# Altium schematic symbol library switch_ic_analog_mux&demux.SchLib: 50 symbols
Pins are listed as number, name and electrical type; pins without a type are passive.

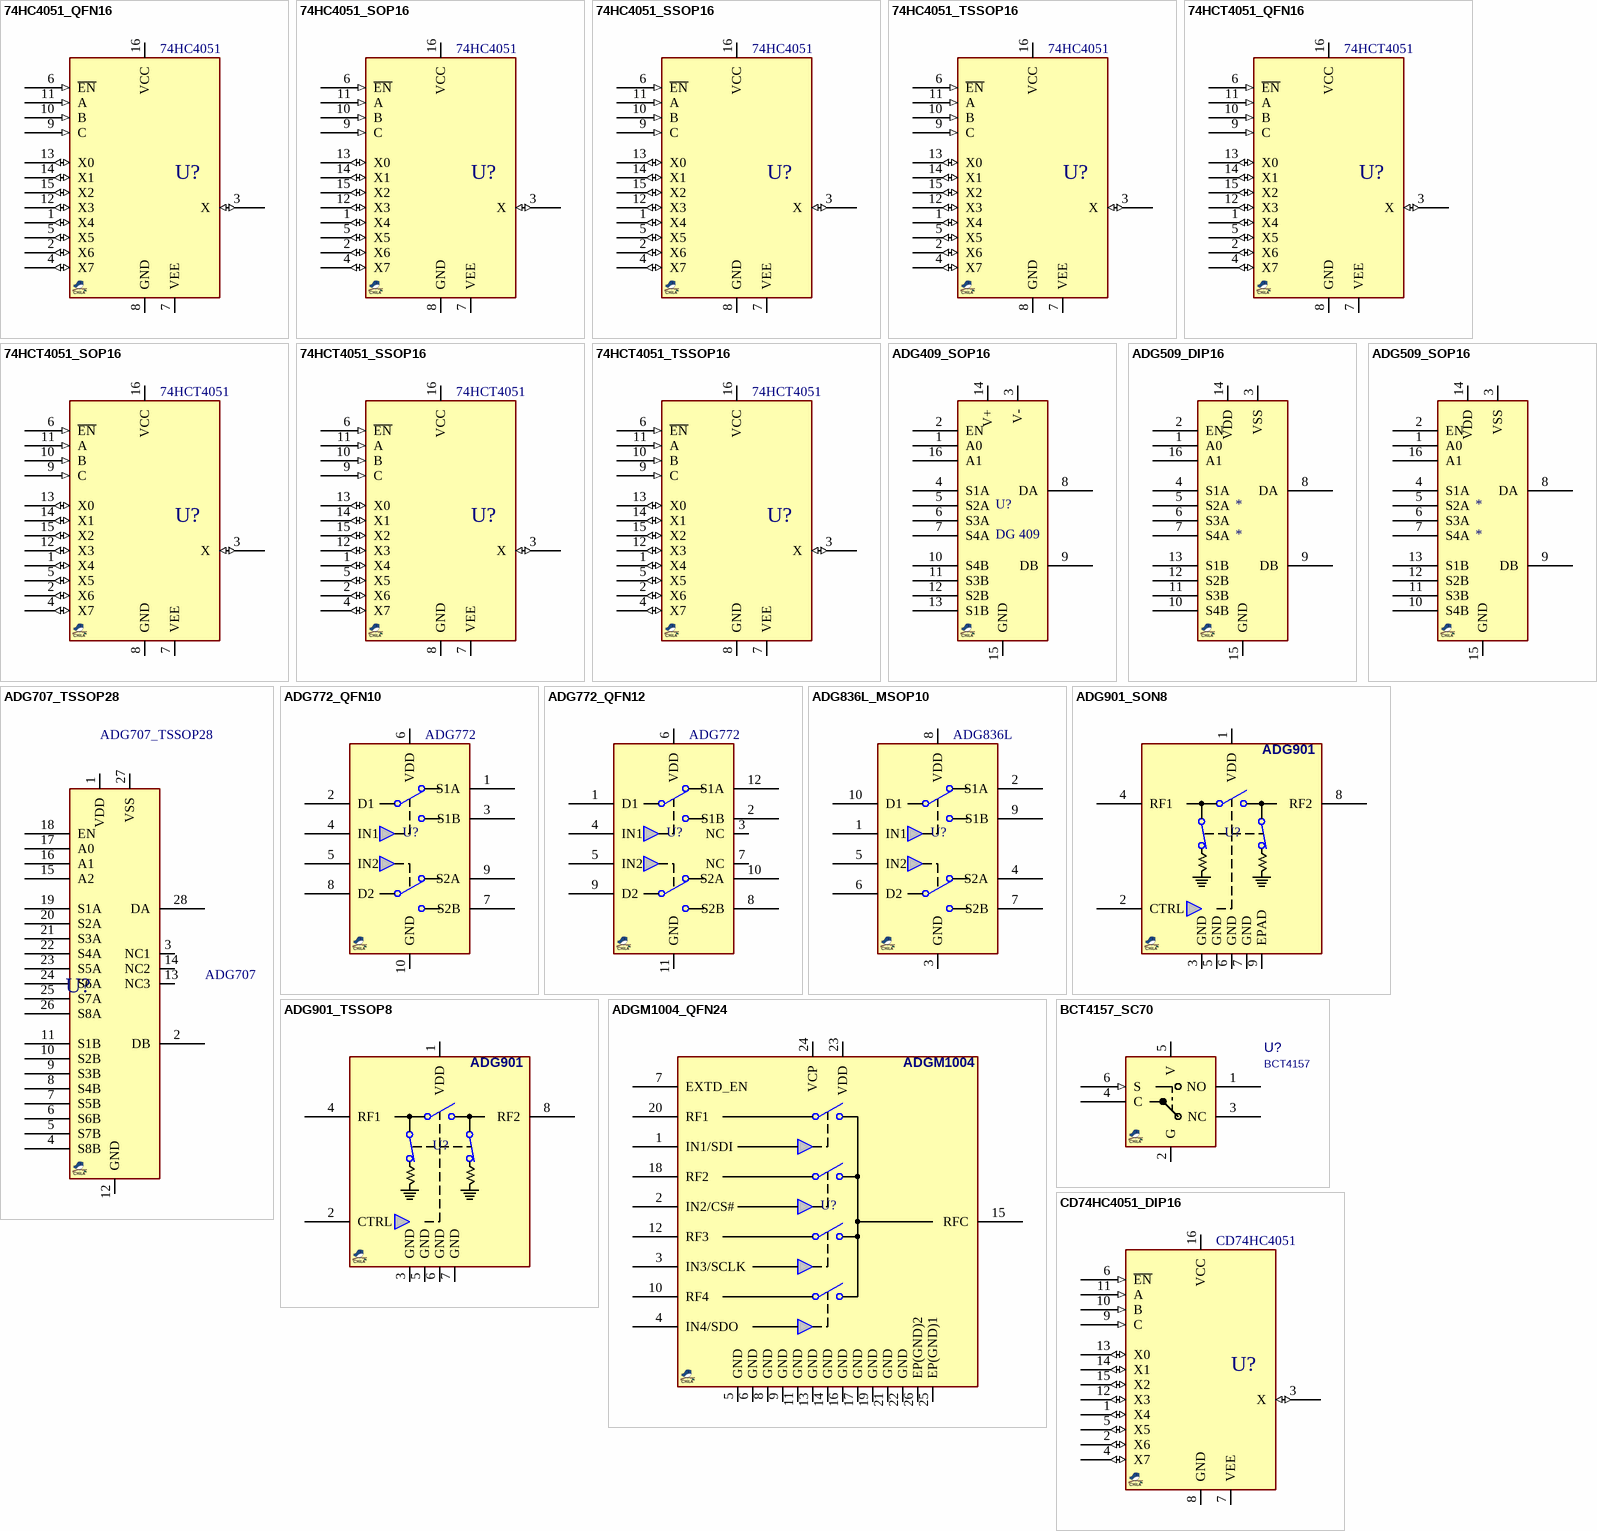
[diagram p0: symbols 74HC4051_QFN16 to CD74HC4051_DIP16]

## 74HC4051_QFN16
designator U?, comment 74HC4051
IC, MUX/DEMUX, 8:1 , analog; MANF: NXP; MANF_P#: 74HC4051D; PARAM2: 2~4.5VCC, -5~+5V; PARAM: 80/70/60 Ohm, -40~125°C; PRICE: -; VALUE: 74HC4051; PACKAGE: QFN-16
footprint QFN50_16T_3525 (Footprint not found)
pins: 1 X4 (io), 2 X6 (io), 3 X (io), 4 X7 (io), 5 X5 (io), 6 ~{EN} (in), 7 VEE (power), 8 GND (power), 9 C (in), 10 B (in), 11 A (in), 12 X3 (io), 13 X0 (io), 14 X1 (io), 15 X2 (io), 16 VCC (power)

## 74HC4051_SOP16
designator U?, comment 74HC4051
IC, MUX/DEMUX, 8:1 , analog; MANF: NXP; MANF_P#: 74HC4051D; PARAM2: 2~4.5VCC, -5~+5V; PARAM: 80/70/60 Ohm, -40~125°C; PRICE: -; VALUE: 74HC4051; PACKAGE: SOP-16
footprint SO_16 (SOP, SOIC, 3.9mm width, 1.27mm pitch,)
pins: 1 X4 (io), 2 X6 (io), 3 X (io), 4 X7 (io), 5 X5 (io), 6 ~{EN} (in), 7 VEE (power), 8 GND (power), 9 C (in), 10 B (in), 11 A (in), 12 X3 (io), 13 X0 (io), 14 X1 (io), 15 X2 (io), 16 VCC (power)

## 74HC4051_SSOP16
designator U?, comment 74HC4051
IC, MUX/DEMUX, 8:1 , analog; MANF: NXP; MANF_P#: 74HC4051DB; PARAM2: 2~4.5VCC, -5~+5V; PARAM: 80/70/60 Ohm, -40~125°C; PRICE: -; PACKAGE: SSOP-16; VALUE: 74HC4051
footprint SOG65_16_W (SSOP16, SOT338-1, SOT403-1, RU-16, pitch: 0.65mm, 6x5.3mm, GN16, MO-150AC)
pins: 1 X4 (io), 2 X6 (io), 3 X (io), 4 X7 (io), 5 X5 (io), 6 ~{EN} (in), 7 VEE (power), 8 GND (power), 9 C (in), 10 B (in), 11 A (in), 12 X3 (io), 13 X0 (io), 14 X1 (io), 15 X2 (io), 16 VCC (power)

## 74HC4051_TSSOP16
designator U?, comment 74HC4051
IC, MUX/DEMUX, 8:1 , analog; MANF: NXP; MANF_P#: 74HC4051PW; PARAM2: 2~4.5VCC, -5~+5V; PARAM: 80/70/60 Ohm, -40~125°C; PRICE: -; VALUE: 74HC4051; PACKAGE: TSSOP-16
footprint SOG65_16 (PW TSSOP (TI), MO-153-AB (JEDEC), 16Lead, pitch: 0.65mm, 5x4.4x1.2mm)
pins: 1 X4 (io), 2 X6 (io), 3 X (io), 4 X7 (io), 5 X5 (io), 6 ~{EN} (in), 7 VEE (power), 8 GND (power), 9 C (in), 10 B (in), 11 A (in), 12 X3 (io), 13 X0 (io), 14 X1 (io), 15 X2 (io), 16 VCC (power)

## 74HCT4051_QFN16
designator U?, comment 74HCT4051
IC, MUX/DEMUX, 8:1 , analog; MANF: NXP; MANF_P#: 74HCT4051D; PARAM2: 4.5~5.5VCC, -5~+5V; PARAM: 80/70/60 Ohm, -40~125°C; PRICE: -; VALUE: 74HCT4051; PACKAGE: QFN-16
footprint QFN50_16T_3525 (Footprint not found)
pins: 1 X4 (io), 2 X6 (io), 3 X (io), 4 X7 (io), 5 X5 (io), 6 ~{EN} (in), 7 VEE (power), 8 GND (power), 9 C (in), 10 B (in), 11 A (in), 12 X3 (io), 13 X0 (io), 14 X1 (io), 15 X2 (io), 16 VCC (power)

## 74HCT4051_SOP16
designator U?, comment 74HCT4051
IC, MUX/DEMUX, 8:1 , analog; MANF: NXP; MANF_P#: 74HCT4051D; PARAM2: 4.5~5.5VCC, -5~+5V; PARAM: 80/70/60 Ohm, -40~125°C; PRICE: -; VALUE: 74HCT4051; PACKAGE: SOP-16
footprint SO_16 (SOP, SOIC, 3.9mm width, 1.27mm pitch,)
pins: 1 X4 (io), 2 X6 (io), 3 X (io), 4 X7 (io), 5 X5 (io), 6 ~{EN} (in), 7 VEE (power), 8 GND (power), 9 C (in), 10 B (in), 11 A (in), 12 X3 (io), 13 X0 (io), 14 X1 (io), 15 X2 (io), 16 VCC (power)

## 74HCT4051_SSOP16
designator U?, comment 74HCT4051
IC, MUX/DEMUX, 8:1 , analog; MANF: NXP; MANF_P#: 74HCT4051DB; PARAM2: 4.5~5.5VCC, -5~+5V; PARAM: 80/70/60 Ohm, -40~125°C; PRICE: -; PACKAGE: SSOP-16; VALUE: 74HCT4051
footprint SOG65_16_W (SSOP16, SOT338-1, SOT403-1, RU-16, pitch: 0.65mm, 6x5.3mm, GN16, MO-150AC)
pins: 1 X4 (io), 2 X6 (io), 3 X (io), 4 X7 (io), 5 X5 (io), 6 ~{EN} (in), 7 VEE (power), 8 GND (power), 9 C (in), 10 B (in), 11 A (in), 12 X3 (io), 13 X0 (io), 14 X1 (io), 15 X2 (io), 16 VCC (power)

## 74HCT4051_TSSOP16
designator U?, comment 74HCT4051
IC, MUX/DEMUX, 8:1 , analog; MANF: NXP; MANF_P#: 74HCT4051PW; PARAM2: 4.5~5.5VCC, -5~+5V; PARAM: 80/70/60 Ohm, -40~125°C; PRICE: -; VALUE: 74HCT4051; PACKAGE: TSSOP-16
footprint SOG65_16 (PW TSSOP (TI), MO-153-AB (JEDEC), 16Lead, pitch: 0.65mm, 5x4.4x1.2mm)
pins: 1 X4 (io), 2 X6 (io), 3 X (io), 4 X7 (io), 5 X5 (io), 6 ~{EN} (in), 7 VEE (power), 8 GND (power), 9 C (in), 10 B (in), 11 A (in), 12 X3 (io), 13 X0 (io), 14 X1 (io), 15 X2 (io), 16 VCC (power)

## ADG409_SOP16
designator U?, comment DG 409
IC, SW/MUX, ANALOG, DUAL; MANF: Analog Devices; MANF_P#: ADG409BRZ; PARAM2: 15/12/5VCC; PARAM: 125Ohm, -40~85oC; VALUE: ADG409; PRICE: 6$; PACKAGE: SOP-16
footprint SO_16 (SOP, SOIC, 3.9mm width, 1.27mm pitch,)
pins: 1 A0, 2 EN, 3 V-, 4 S1A, 5 S2A, 6 S3A, 7 S4A, 8 DA, 9 DB, 10 S4B, 11 S3B, 12 S2B, 13 S1B, 14 V+, 15 GND, 16 A1

## ADG509_DIP16
designator *
IC, SW/MUX, ANALOG, DUAL; MANF: Analog Devices; MANF_P#: ADG509AKN; PARAM2: 10.8~16.5VCC; PARAM: -40~85oC; VALUE: ADG509; PRICE: 6$; PACKAGE: DIP-16
footprint DIP_16 (DIP, pitch 2.54mm, 300mil Width)
pins: 1 A0, 2 EN, 3 VSS, 4 S1A, 5 S2A, 6 S3A, 7 S4A, 8 DA, 9 DB, 10 S4B, 11 S3B, 12 S2B, 13 S1B, 14 VDD, 15 GND, 16 A1

## ADG509_SOP16
designator *
IC, SW/MUX, ANALOG, DUAL; MANF: Analog Devices; MANF_P#: ADG509AKR; PARAM2: 10.8~16.5VCC; PARAM: -40~85oC; VALUE: ADG509; PRICE: 6$; PACKAGE: SOP-16
footprint SO_16 (SOP, SOIC, 3.9mm width, 1.27mm pitch,)
pins: 1 A0, 2 EN, 3 VSS, 4 S1A, 5 S2A, 6 S3A, 7 S4A, 8 DA, 9 DB, 10 S4B, 11 S3B, 12 S2B, 13 S1B, 14 VDD, 15 GND, 16 A1

## ADG707_TSSOP28
designator U?  value ADG707
IC, SWITCH, MUX, 8/16CH; MANF: ANALOG DEVICES; DIST#: DIGIKEY, ADG707BRUZ-ND; MANF_P#: ADG707BRUZ; PARAM2: 1.8~5.5VCC; PARAM: 8Bit, ±2.5V, 2.5Ohm, -40~85oC; PRICE: 4.8409; PACKAGE: TSSOP-28
footprint SOG65_28 (PW TSSOP (TI), MO-153-AE (JEDEC), 28Lead, pitch: 0.65mm, 10x4.4x1.2mm)
pins: 1 VDD, 2 DB, 3 NC1, 4 S8B, 5 S7B, 6 S6B, 7 S5B, 8 S4B, 9 S3B, 10 S2B, 11 S1B, 12 GND, 13 NC3, 14 NC2, 15 A2, 16 A1, 17 A0, 18 EN, 19 S1A, 20 S2A, 21 S3A, 22 S4A, 23 S5A, 24 S6A, 25 S7A, 26 S8A, 27 VSS, 28 DA

## ADG772_QFN10
designator U?, comment ADG772
IC SWITCH ANALOG, DUAL SPDT, USB2 MUX/DEMUX; MANF: Analog Devices; MANF_P#: ADG772BCPZ-REEL7; PARAM2: 2.7~3.6VCC; PARAM: 6.7Ohm, 9ns/6ns, -40~85oC; PRICE: 2.4$; VALUE: ADG772; PACKAGE: QFN-10
footprint QFN40_10_1316 (QFN, 10, 1.3X1.6mm, 0.4mm, LFCSP, CP-10-10)
pins: 1 S1A, 2 D1, 3 S1B, 4 IN1, 5 IN2, 6 VDD, 7 S2B, 8 D2, 9 S2A, 10 GND

## ADG772_QFN12
designator U?, comment ADG772
IC SWITCH ANALOG, DUAL SPDT, USB2 MUX/DEMUX; MANF: Analog Devices; MANF_P#: ADG772BCPZ-1REEL; PARAM2: 2.7~3.6VCC; PARAM: 6.7Ohm, 9ns/6ns, -40~85oC; PRICE: 2.4$; VALUE: ADG772; PACKAGE: QFN-12
footprint QFN50_12T (LFCSP, CP-12-4, 3X3mm, 0.5mm pitch, MO-220)
pins: 1 D1, 2 S1B, 3 NC, 4 IN1, 5 IN2, 6 VDD, 7 NC, 8 S2B, 9 D2, 10 S2A, 11 GND, 12 S1A

## ADG836L_MSOP10
designator U?, comment ADG836L
IC SWITCH ANALOG, DUAL SPDT; MANF: Analog Devices; MANF_P#: ADG836LYRMZ; PARAM2: 1.65~3.6VCC; PARAM: 650mOhm, -40~125oC; PRICE: 3.3$; VALUE: ADG836L; PACKAGE: MSOP-10
footprint SOG50_10 (MSSOP10, 3X3mm 0.5mm pitch, DGS, MSOP10, 10uSOP/usop10 (Dallas), MO-187BA(JEDEC))
pins: 1 IN1, 2 S1A, 3 GND, 4 S2A, 5 IN2, 6 D2, 7 S2B, 8 VDD, 9 S1B, 10 D1

## ADG901_SON8
designator U?, comment ADG901  (value not drawn)
IC SWITCH ANALOG, SPST, 0~4.5GHz; MANF: Analog Devices; MANF_P#: ADG901BCPZ; PARAM2: 1.65~2.75VCC; PARAM: 0.5dB Loss, -40~85oC; PRICE: 3.5$; VALUE: ADG901; PACKAGE: SON-8
footprint SON50_8T_3030 (WSON-8, DRG, LFCSP_WD, 3X3mm 0.5mm pitch with Thermal pad)
pins: 1 VDD, 2 CTRL, 3 GND, 4 RF1, 5 GND, 6 GND, 7 GND, 8 RF2, 9 EPAD

## ADG901_TSSOP8
designator U?, comment ADG901  (value not drawn)
IC SWITCH ANALOG, SPST, 0~4.5GHz; MANF: Analog Devices; MANF_P#: ADG901BRMZ; PARAM2: 1.65~2.75VCC; PARAM: 0.5dB Loss, -40~85oC; PRICE: 3.5$; VALUE: ADG901; PACKAGE: TSSOP-8
footprint SOG65_8_3 (TSSOP8, MICRO8, DGK VSSOP-8, pitch: 0.65mm, 3X3mm, MSOP8, RM-8, MS8, MSOP-8, TSSO3X5-G8/D3.1, 8 uMAX, usop8/8uSOP, MO-187AA, MO-153AA, SSOP DCT (TI))
pins: 1 VDD, 2 CTRL, 3 GND, 4 RF1, 5 GND, 6 GND, 7 GND, 8 RF2

## ADGM1004_QFN24
designator U?, comment ADGM1004  (value not drawn)
IC SWITCH ANALOG, SP4T, 0~13GHz; MANF: Analog Devices; MANF_P#: ADGM1004JCPZ; PARAM2: 3.3VCC; PARAM: 2.9Ohm, 0~85°C; PRICE: 66$; VALUE: ADGM1004; PACKAGE: QFN-24
footprint QFN50_24T2_5040 (CP-24-4, QFN-24, 0.5mm pitch, 5x4x1.5mm)
pins: 1 IN1/SDI, 2 IN2/CS#, 3 IN3/SCLK, 4 IN4/SDO, 5 GND, 6 GND, 7 EXTD_EN, 8 GND, 9 GND, 10 RF4, 11 GND, 12 RF3, 13 GND, 14 GND, 15 RFC, 16 GND, 17 GND, 18 RF2, 19 GND, 20 RF1, 21 GND, 22 GND, 23 VDD, 24 VCP, 25 EP(GND)1, 26 EP(GND)2

## BCT4157_SC70
designator U?, comment BCT4157
IC, SWITCH, Analog, SPDT, SC-70-6; MANF: BROADCHIP; MANF_P#: BCT4157EXT; PARAM2: 1.65~5.5V, 300MHz BW; PARAM: 2.8Ohm Ron, 14ns, -40~85oC; PRICE: 0.05$; VALUE: BCT4157; PACKAGE: SC70-5
footprint SOT363_6 (SOT-363, SC-70_6, BFS483, SC-88, MO-203AB, DSO65_6_200X130)
pins: 1 NO, 2 G, 3 NC, 4 C, 5 V, 6 S (in)

## CD74HC4051_DIP16
designator U?, comment CD74HC4051
IC, MUX/DEMUX, 8:1 , analog; MANF: Texas Instruments; MANF_P#: CD74HC4051E; PARAM2: 2~6VCC,  +/- 5 V; PARAM: 130 Ohm, 225ns ON time, -55~125°C; PRICE: 0.6$; VALUE: CD74HC4051; PACKAGE: DIP-16
footprint DIP_16 (DIP, pitch 2.54mm, 300mil Width)
pins: 1 X4 (io), 2 X6 (io), 3 X (io), 4 X7 (io), 5 X5 (io), 6 ~{EN} (in), 7 VEE (power), 8 GND (power), 9 C (in), 10 B (in), 11 A (in), 12 X3 (io), 13 X0 (io), 14 X1 (io), 15 X2 (io), 16 VCC (power)

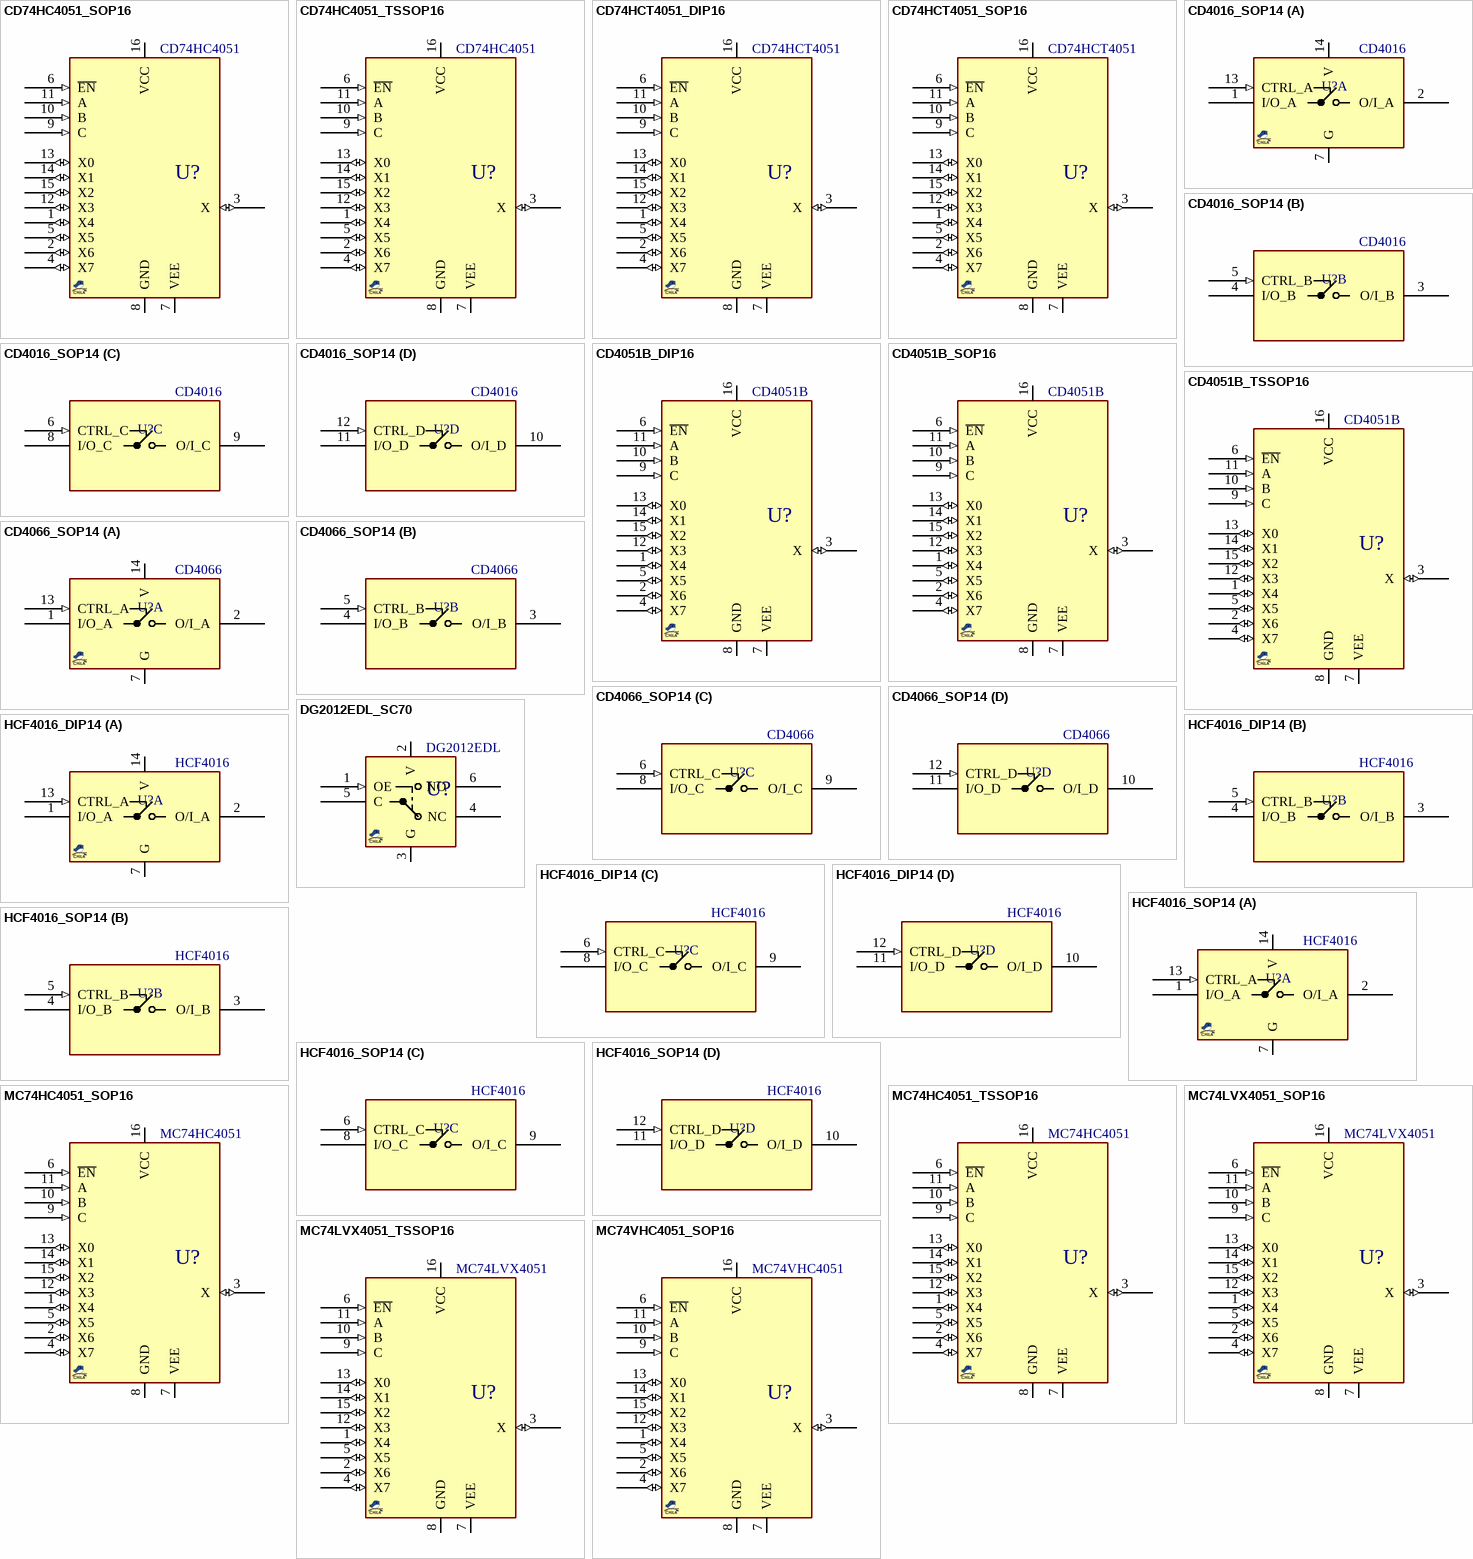
[diagram p1: symbols CD74HC4051_SOP16 to MC74VHC4051_SOP16]

## CD74HC4051_SOP16
designator U?, comment CD74HC4051
IC, MUX/DEMUX, 8:1 , analog; MANF: Texas Instruments; MANF_P#: CD74HC4051M, CD74HC4051NS; PARAM2: 2~6VCC,  +/- 5 V; PARAM: 130 Ohm, 225ns ON time, -55~125°C; PRICE: 0.6$; VALUE: CD74HC4051; PACKAGE: SOP-16
footprint SO_16 (SOP, SOIC, 3.9mm width, 1.27mm pitch,)
pins: 1 X4 (io), 2 X6 (io), 3 X (io), 4 X7 (io), 5 X5 (io), 6 ~{EN} (in), 7 VEE (power), 8 GND (power), 9 C (in), 10 B (in), 11 A (in), 12 X3 (io), 13 X0 (io), 14 X1 (io), 15 X2 (io), 16 VCC (power)

## CD74HC4051_TSSOP16
designator U?, comment CD74HC4051
IC, MUX/DEMUX, 8:1 , analog; MANF: Texas Instruments; MANF_P#: CD74HC4051PW; PARAM2: 2~6VCC,  +/- 5 V; PARAM: 130 Ohm, 225ns ON time, -55~125°C; PRICE: 0.6$; VALUE: CD74HC4051; PACKAGE: TSSOP-16
footprint SOG65_16 (PW TSSOP (TI), MO-153-AB (JEDEC), 16Lead, pitch: 0.65mm, 5x4.4x1.2mm)
pins: 1 X4 (io), 2 X6 (io), 3 X (io), 4 X7 (io), 5 X5 (io), 6 ~{EN} (in), 7 VEE (power), 8 GND (power), 9 C (in), 10 B (in), 11 A (in), 12 X3 (io), 13 X0 (io), 14 X1 (io), 15 X2 (io), 16 VCC (power)

## CD74HCT4051_DIP16
designator U?, comment CD74HCT4051
IC, MUX/DEMUX, 8:1 , analog; MANF: Texas Instruments; MANF_P#: CD74HCT4051E; PARAM2: 4.5~5.5VCC,  +/- 5 V; PARAM: 130 Ohm, 49ns ON time, -55~125°C; PRICE: 0.6$; VALUE: CD74HCT4051; PACKAGE: DIP-16
footprint DIP_16 (DIP, pitch 2.54mm, 300mil Width)
pins: 1 X4 (io), 2 X6 (io), 3 X (io), 4 X7 (io), 5 X5 (io), 6 ~{EN} (in), 7 VEE (power), 8 GND (power), 9 C (in), 10 B (in), 11 A (in), 12 X3 (io), 13 X0 (io), 14 X1 (io), 15 X2 (io), 16 VCC (power)

## CD74HCT4051_SOP16
designator U?, comment CD74HCT4051
IC, MUX/DEMUX, 8:1 , analog; MANF: Texas Instruments; MANF_P#: CD74HCT4051M; PARAM2: 4.5~5.5VCC,  +/- 5 V; PARAM: 130 Ohm, 49ns ON time, -55~125°C; PRICE: 0.6$; VALUE: CD74HCT4051; PACKAGE: SOP-16
footprint SO_16 (SOP, SOIC, 3.9mm width, 1.27mm pitch,)
pins: 1 X4 (io), 2 X6 (io), 3 X (io), 4 X7 (io), 5 X5 (io), 6 ~{EN} (in), 7 VEE (power), 8 GND (power), 9 C (in), 10 B (in), 11 A (in), 12 X3 (io), 13 X0 (io), 14 X1 (io), 15 X2 (io), 16 VCC (power)

## CD4016_SOP14
designator U?, comment CD4016
IC SWITCH ANALOG, QUAD BILATERAL; MANF: Texas Instruments; MANF_P#: CD4016BM; PARAM2: 3~18V, ±10V SWITCH; PARAM: 5Ohm, -55~125oC; PRICE: 0.4$; VALUE: CD4016; PACKAGE: SOP-14
footprint SO_14 (SOP, SOIC, 3.9mm width, 1.27mm pitch,)
part A pins: 1 I/O_A, 2 O/I_A, 7 G, 13 CTRL_A (in), 14 V
part B pins: 3 O/I_B, 4 I/O_B, 5 CTRL_B (in)
part C pins: 6 CTRL_C (in), 8 I/O_C, 9 O/I_C
part D pins: 10 O/I_D, 11 I/O_D, 12 CTRL_D (in)

## CD4051B_DIP16
designator U?, comment CD4051B
IC, MUX/DEMUX, 8:1 , analog; MANF: Texas Instruments; MANF_P#: CD4051BE; PARAM2: 5~18VCC,  +/- 9 V; PARAM: 240 Ohm, 720ns ON time, -55~125°C; PRICE: 0.6$; VALUE: CD4051B; PACKAGE: DIP-16
footprint DIP_16 (DIP, pitch 2.54mm, 300mil Width)
pins: 1 X4 (io), 2 X6 (io), 3 X (io), 4 X7 (io), 5 X5 (io), 6 ~{EN} (in), 7 VEE (power), 8 GND (power), 9 C (in), 10 B (in), 11 A (in), 12 X3 (io), 13 X0 (io), 14 X1 (io), 15 X2 (io), 16 VCC (power)

## CD4051B_SOP16
designator U?, comment CD4051B
IC, MUX/DEMUX, 8:1 , analog; MANF: Texas Instruments; MANF_P#: CD4051BM; PARAM2: 5~18VCC,  +/- 9 V; PARAM: 240 Ohm, 720ns ON time, -55~125°C; PRICE: 0.6$; VALUE: CD4051B; PACKAGE: SOP-16
footprint SO_16 (SOP, SOIC, 3.9mm width, 1.27mm pitch,)
pins: 1 X4 (io), 2 X6 (io), 3 X (io), 4 X7 (io), 5 X5 (io), 6 ~{EN} (in), 7 VEE (power), 8 GND (power), 9 C (in), 10 B (in), 11 A (in), 12 X3 (io), 13 X0 (io), 14 X1 (io), 15 X2 (io), 16 VCC (power)

## CD4051B_TSSOP16
designator U?, comment CD4051B
IC, MUX/DEMUX, 8:1 , analog; MANF: Texas Instruments; MANF_P#: CD4051BPW; PARAM2: 5~18VCC,  +/- 9 V; PARAM: 240 Ohm, 720ns ON time, -55~125°C; PRICE: 0.6$; VALUE: CD4051B; PACKAGE: TSSOP-16
footprint SOG65_16 (PW TSSOP (TI), MO-153-AB (JEDEC), 16Lead, pitch: 0.65mm, 5x4.4x1.2mm)
pins: 1 X4 (io), 2 X6 (io), 3 X (io), 4 X7 (io), 5 X5 (io), 6 ~{EN} (in), 7 VEE (power), 8 GND (power), 9 C (in), 10 B (in), 11 A (in), 12 X3 (io), 13 X0 (io), 14 X1 (io), 15 X2 (io), 16 VCC (power)

## CD4066_SOP14
designator U?, comment CD4066
IC SWITCH ANALOG, QUAD BILATERAL; MANF: Texas Instruments; MANF_P#: CD4066BM; PARAM2: 3~18V, ±10V SWITCH; PARAM: 5Ohm, 30ns, -55~125oC; PRICE: 0.5$, 500t@PAYA; PACKAGE: SOP-14; VALUE: CD4066
footprint SO_14 (SOP, SOIC, 3.9mm width, 1.27mm pitch,)
part A pins: 1 I/O_A, 2 O/I_A, 7 G, 13 CTRL_A (in), 14 V
part B pins: 3 O/I_B, 4 I/O_B, 5 CTRL_B (in)
part C pins: 6 CTRL_C (in), 8 I/O_C, 9 O/I_C
part D pins: 10 O/I_D, 11 I/O_D, 12 CTRL_D (in)

## DG2012EDL_SC70
designator U?, comment DG2012EDL
IC, SWITCH, Analog, SPDT, SC-70-5; MANF: VISHAY; MANF_P#: DG2012EDL-T1-GE3; PARAM2: 1.8~5.5V; PARAM: 1Ohm Ron, 35ns, -40~85oC; PRICE: 0.8$; VALUE: DG2012EDL; PACKAGE: SC70-5
footprint SOT363_6 (SOT-363, SC-70_6, BFS483, SC-88, MO-203AB, DSO65_6_200X130)
pins: 1 OE (in), 2 V, 3 G, 4 NC, 5 C, 6 NO

## HCF4016_DIP14
designator U?, comment HCF4016
IC SWITCH ANALOG, QUAD BILATERAL; MANF: ST; MANF_P#: HCF4016BEY; PARAM2: 3~20V, ±10V SWITCH; PARAM: 5Ohm, -55~125oC; PRICE: 0.4$; VALUE: HCF4016; PACKAGE: DIP-14
footprint DIP_14 (DIP, pitch 2.54mm, 300mil Width)
part A pins: 1 I/O_A, 2 O/I_A, 7 G, 13 CTRL_A (in), 14 V
part B pins: 3 O/I_B, 4 I/O_B, 5 CTRL_B (in)
part C pins: 6 CTRL_C (in), 8 I/O_C, 9 O/I_C
part D pins: 10 O/I_D, 11 I/O_D, 12 CTRL_D (in)

## HCF4016_SOP14
designator U?, comment HCF4016
IC SWITCH ANALOG, QUAD BILATERAL; MANF: ST; MANF_P#: HCF4016BM; PARAM2: 3~20V, ±10V SWITCH; PARAM: 5Ohm, -55~125oC; PRICE: 0.4$, 300t@PAYA; VALUE: HCF4016; PACKAGE: SOP-14
footprint SO_14 (SOP, SOIC, 3.9mm width, 1.27mm pitch,)
part A pins: 1 I/O_A, 2 O/I_A, 7 G, 13 CTRL_A (in), 14 V
part B pins: 3 O/I_B, 4 I/O_B, 5 CTRL_B (in)
part C pins: 6 CTRL_C (in), 8 I/O_C, 9 O/I_C
part D pins: 10 O/I_D, 11 I/O_D, 12 CTRL_D (in)

## MC74HC4051_SOP16
designator U?, comment MC74HC4051
IC, MUX/DEMUX, 8:1 , analog; MANF: ON; MANF_P#: MC74HC4051ADT; PARAM2: 2~12VCC,   +/- 6 V; PARAM: 190Ohm, 245ns ON time, -55~125°C; PRICE: 0.6$; VALUE: MC74HC4051; PACKAGE: SOP-16
footprint SO_16 (SOP, SOIC, 3.9mm width, 1.27mm pitch,)
pins: 1 X4 (io), 2 X6 (io), 3 X (io), 4 X7 (io), 5 X5 (io), 6 ~{EN} (in), 7 VEE (power), 8 GND (power), 9 C (in), 10 B (in), 11 A (in), 12 X3 (io), 13 X0 (io), 14 X1 (io), 15 X2 (io), 16 VCC (power)

## MC74HC4051_TSSOP16
designator U?, comment MC74HC4051
IC, MUX/DEMUX, 8:1 , analog; MANF: ON; MANF_P#: MC74HC4051ADT; PARAM2: 2~12VCC,   +/- 6 V; PARAM: 190Ohm, 245ns ON time, -55~125°C; PRICE: 0.6$; VALUE: MC74HC4051; PACKAGE: TSSOP-16
footprint SOG65_16 (PW TSSOP (TI), MO-153-AB (JEDEC), 16Lead, pitch: 0.65mm, 5x4.4x1.2mm)
pins: 1 X4 (io), 2 X6 (io), 3 X (io), 4 X7 (io), 5 X5 (io), 6 ~{EN} (in), 7 VEE (power), 8 GND (power), 9 C (in), 10 B (in), 11 A (in), 12 X3 (io), 13 X0 (io), 14 X1 (io), 15 X2 (io), 16 VCC (power)

## MC74LVX4051_SOP16
designator U?, comment MC74LVX4051
IC, MUX/DEMUX, 8:1 , analog; MANF: ON; MANF_P#: MC74LVX4051D; PARAM2: 2.5~6VCC,  +/- 5 V; PARAM: 86Ohm, 40ns ON time, -55~125°C; PRICE: 0.6$; VALUE: MC74LVX4051; PACKAGE: SOP-16
footprint SO_16 (SOP, SOIC, 3.9mm width, 1.27mm pitch,)
pins: 1 X4 (io), 2 X6 (io), 3 X (io), 4 X7 (io), 5 X5 (io), 6 ~{EN} (in), 7 VEE (power), 8 GND (power), 9 C (in), 10 B (in), 11 A (in), 12 X3 (io), 13 X0 (io), 14 X1 (io), 15 X2 (io), 16 VCC (power)

## MC74LVX4051_TSSOP16
designator U?, comment MC74LVX4051
IC, MUX/DEMUX, 8:1 , analog; MANF: ON; MANF_P#: MC74LVX4051DT; PARAM2: 2.5~6VCC,  +/- 5 V; PARAM: 86Ohm, 40ns ON time, -55~125°C; PRICE: 0.6$; VALUE: MC74LVX4051; PACKAGE: TSSOP-16
footprint SOG65_16 (PW TSSOP (TI), MO-153-AB (JEDEC), 16Lead, pitch: 0.65mm, 5x4.4x1.2mm)
pins: 1 X4 (io), 2 X6 (io), 3 X (io), 4 X7 (io), 5 X5 (io), 6 ~{EN} (in), 7 VEE (power), 8 GND (power), 9 C (in), 10 B (in), 11 A (in), 12 X3 (io), 13 X0 (io), 14 X1 (io), 15 X2 (io), 16 VCC (power)

## MC74VHC4051_SOP16
designator U?, comment MC74VHC4051
IC, MUX/DEMUX, 8:1 , analog; MANF: ON; MANF_P#: MC74VHC4051D; PARAM2: 2~6VCC,  +/- 5 V; PARAM: 200Ohm, 245ns ON time, -55~125°C; PRICE: 0.6$; PACKAGE: SOP-16; VALUE: MC74VHC4051
footprint SO_16 (SOP, SOIC, 3.9mm width, 1.27mm pitch,)
pins: 1 X4 (io), 2 X6 (io), 3 X (io), 4 X7 (io), 5 X5 (io), 6 ~{EN} (in), 7 VEE (power), 8 GND (power), 9 C (in), 10 B (in), 11 A (in), 12 X3 (io), 13 X0 (io), 14 X1 (io), 15 X2 (io), 16 VCC (power)

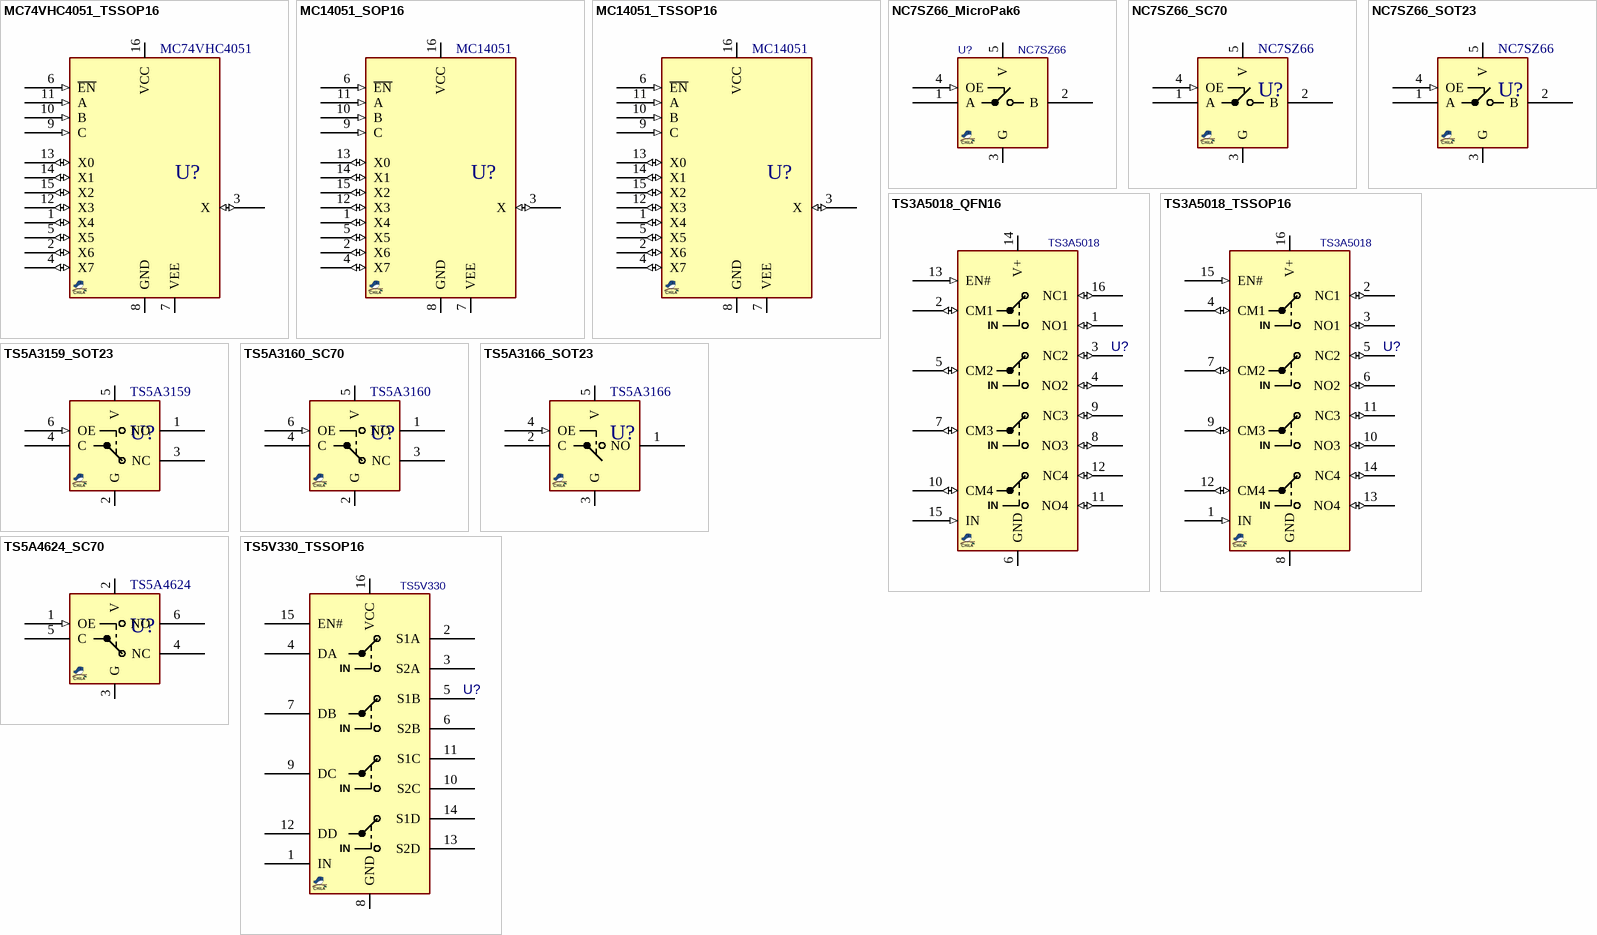
[diagram p2: symbols MC74VHC4051_TSSOP16 to TS5V330_TSSOP16]

## MC74VHC4051_TSSOP16
designator U?, comment MC74VHC4051
IC, MUX/DEMUX, 8:1 , analog; MANF: ON; MANF_P#: MC74VHC4051DT; PARAM2: 2~6VCC,  +/- 5 V; PARAM: 200Ohm, 245ns ON time, -55~125°C; PRICE: 0.6$; PACKAGE: TSSOP-16; VALUE: MC74VHC4051
footprint SOG65_16 (PW TSSOP (TI), MO-153-AB (JEDEC), 16Lead, pitch: 0.65mm, 5x4.4x1.2mm)
pins: 1 X4 (io), 2 X6 (io), 3 X (io), 4 X7 (io), 5 X5 (io), 6 ~{EN} (in), 7 VEE (power), 8 GND (power), 9 C (in), 10 B (in), 11 A (in), 12 X3 (io), 13 X0 (io), 14 X1 (io), 15 X2 (io), 16 VCC (power)

## MC14051_SOP16
designator U?, comment MC14051
IC, MUX/DEMUX, 8:1 , analog; MANF: ON; MANF_P#: MC14051BD; PARAM2: 3~18VCC,; PARAM: 1.2KOhm, 700ns ON time, -55~125°C; PRICE: 0.6$; VALUE: MC14051; PACKAGE: SOP-16
footprint SO_16 (SOP, SOIC, 3.9mm width, 1.27mm pitch,)
pins: 1 X4 (io), 2 X6 (io), 3 X (io), 4 X7 (io), 5 X5 (io), 6 ~{EN} (in), 7 VEE (power), 8 GND (power), 9 C (in), 10 B (in), 11 A (in), 12 X3 (io), 13 X0 (io), 14 X1 (io), 15 X2 (io), 16 VCC (power)

## MC14051_TSSOP16
designator U?, comment MC14051
IC, MUX/DEMUX, 8:1 , analog; MANF: ON; MANF_P#: MC14051BDT; PARAM2: 3~18VCC,; PARAM: 1.2KOhm, 700ns ON time, -55~125°C; PRICE: 0.6$; VALUE: MC14051; PACKAGE: TSSOP-16
footprint SOG65_16 (PW TSSOP (TI), MO-153-AB (JEDEC), 16Lead, pitch: 0.65mm, 5x4.4x1.2mm)
pins: 1 X4 (io), 2 X6 (io), 3 X (io), 4 X7 (io), 5 X5 (io), 6 ~{EN} (in), 7 VEE (power), 8 GND (power), 9 C (in), 10 B (in), 11 A (in), 12 X3 (io), 13 X0 (io), 14 X1 (io), 15 X2 (io), 16 VCC (power)

## NC7SZ66_MicroPak6
designator U?, comment NC7SZ66
IC, SWITCH, Analog, SPST, MicroPak-6; MANF: FAIRCHILD; MANF_P#: NC7SZ66L6X; PARAM2: 1.65~5.5V; PARAM: 7Ohm Ron, 5ns, -40~85oC; PRICE: 0.46$; PACKAGE: SON-6; VALUE: NC7SZ66
footprint SON50_6_1410 (DRY, ULLGA6_1.45X1_0.5mm, USON 6-PIN , UDFN, MicroPak-6)
pins: 1 A, 2 B, 3 G, 4 OE (in), 5 V

## NC7SZ66_SC70
designator U?, comment NC7SZ66
IC, SWITCH, Analog, SPST, SC-70-5; MANF: FAIRCHILD; MANF_P#: NC7SZ66P5X; PARAM2: 1.65~5.5V; PARAM: 7Ohm Ron, 5ns, -40~85oC; PRICE: 0.46$; VALUE: NC7SZ66; PACKAGE: SC70-5
footprint SOT353_5 (SC-88A, SC70-5, SOT-353, DCK (TI), 0.65mm pitch 2X1.3mm body)
pins: 1 A, 2 B, 3 G, 4 OE (in), 5 V

## NC7SZ66_SOT23
designator U?, comment NC7SZ66
IC, SWITCH, Analog, SPST, SOT-23-5; MANF: FAIRCHILD; MANF_P#: NC7SZ66M5X; PARAM2: 1.65~5.5V; PARAM: 7Ohm Ron, 5ns, -40~85oC; PRICE: 0.46$; PACKAGE: SOT23-5; VALUE: NC7SZ66
footprint SOT23_5 (SOT-23-5, SOT25, SOT-25, DBV(R-PDSO-G5), TSOT23-5, SC-74A, SOT23-5, S5-T (LINEAR), MO-178AA, MO-193AB(JEDEC), MF05A (NS), TSOP-5(ON), UJ-5 (AD), 0.95mm pitch 3X1.5mm)
pins: 1 A, 2 B, 3 G, 4 OE (in), 5 V

## TS3A5018_QFN16
designator U?, comment TS3A5018
IC, SWITCH, Analog, SPDT x4, / 10-Ohm, UQFN-16; MANF: TI; MANF_P#: TS3A5018RSV; PARAM2: 1.8~3.6V, 300MHz BW; PARAM: 10Ohm Ron,3ns, -40~85oC; PRICE: 0.05$; VALUE: TS3A5018; PACKAGE: QFN-16
footprint QFN40_16_2618 (PUQFN-16 RSV XQFN16 SOT1161-1, 2.6X1.8mm, 0.4mm pitch)
pins: 1 NO1 (io), 2 CM1 (io), 3 NC2 (io), 4 NO2 (io), 5 CM2 (io), 6 GND (power), 7 CM3 (io), 8 NO3 (io), 9 NC3 (io), 10 CM4 (io), 11 NO4 (io), 12 NC4 (io), 13 EN# (in), 14 V+ (power), 15 IN (in), 16 NC1 (io)

## TS3A5018_TSSOP16
designator U?, comment TS3A5018
IC, SWITCH, Analog, SPDT x4, / 10-Ohm, TSSOP-16; MANF: TI; MANF_P#: TS3A5018PWR; PARAM2: 1.8~3.6V, 300MHz BW; PARAM: 10Ohm Ron,3ns, -40~85oC; PRICE: 0.05$; VALUE: TS3A5018; PACKAGE: TSSOP-16
footprint SOG65_16 (PW TSSOP (TI), MO-153-AB (JEDEC), 16Lead, pitch: 0.65mm, 5x4.4x1.2mm)
pins: 1 IN (in), 2 NC1 (io), 3 NO1 (io), 4 CM1 (io), 5 NC2 (io), 6 NO2 (io), 7 CM2 (io), 8 GND (power), 9 CM3 (io), 10 NO3 (io), 11 NC3 (io), 12 CM4 (io), 13 NO4 (io), 14 NC4 (io), 15 EN# (in), 16 V+ (power)

## TS5A3159_SOT23
designator U?, comment TS5A3159
IC, SWITCH, Analog, SPDT, SOT-23-6; MANF: Texas Instruments; MANF_P#: TS5A3159QDBVRQ1; PARAM2: 1.65~5.5V; PARAM: 1Ohm Ron, 35ns, -40~125oC; PRICE: 0.8$; PACKAGE: SOT23-6; VALUE: TS5A3159
footprint SOT23_6 (SOT-23-6, DDC, DBV, MICRO6, SOT-26, SOT457, SuperSOT6, TSOP-6, HMC313, MO-178AB, MO-193AA, TSOT)
pins: 1 NO, 2 G, 3 NC, 4 C, 5 V, 6 OE (in)

## TS5A3160_SC70
designator U?, comment TS5A3160
IC, SWITCH, Analog, SPDT, SC-70-6; MANF: Texas Instruments; MANF_P#: TS5A3160DCK; PARAM2: 1.65~5.5V; PARAM: 1Ohm Ron, 6ns, -40~85oC; PRICE: 0.6$; PACKAGE: SC70-5; VALUE: TS5A3160
footprint SOT363_6 (SOT-363, SC-70_6, BFS483, SC-88, MO-203AB, DSO65_6_200X130)
pins: 1 NO, 2 G, 3 NC, 4 C, 5 V, 6 OE (in)

## TS5A3166_SOT23
designator U?, comment TS5A3166
IC, SWITCH, Analog, SPST, SOT-23-6; MANF: Texas Instruments; MANF_P#: TS5A3166DBV; PARAM2: 1.65~5.5V; PARAM: 0.9Ohm Ron, 35ns, -40~85oC; PRICE: 0.6$; PACKAGE: SOT23-5; VALUE: TS5A3166
footprint SOT23_5 (SOT-23-5, SOT25, SOT-25, DBV(R-PDSO-G5), SOT753, TSOT23-5, SC-74A, SOT23-5, S5-T (LINEAR), MO-178AA, MO-193AB(JEDEC), MF05A (NS), TSOP-5(ON), UJ-5 (AD), 0.95mm pitch 3X1.5mm)
pins: 1 NO, 2 C, 3 G, 4 OE (in), 5 V

## TS5A4624_SC70
designator U?, comment TS5A4624
IC, SWITCH, Analog, SPDT, SC-70-6; MANF: Texas Instruments; MANF_P#: TS5A4624DCK; PARAM2: 1.65~5.5V; PARAM: 1Ohm Ron, 35ns, -40~85oC; PRICE: 0.8$; VALUE: TS5A4624; PACKAGE: SC70-5
footprint SOT363_6 (SOT-363, SC-70_6, BFS483, SC-88, MO-203AB, DSO65_6_200X130)
pins: 1 OE (in), 2 V, 3 G, 4 NC, 5 C, 6 NO

## TS5V330_TSSOP16
designator U?, comment TS5V330
IC, SWITCH, Analog, SPDT, SC-70-6; MANF: TI; MANF_P#: TS5V330PW; PARAM2: 5V, 300MHz BW; PARAM: 3Ohm Ron, 6ns, -40~85oC; PRICE: 0.05$; VALUE: TS5V330; PACKAGE: TSSOP-16
footprint SOG65_16 (PW TSSOP (TI), MO-153-AB (JEDEC), 16Lead, pitch: 0.65mm, 5x4.4x1.2mm)
pins: 1 IN, 2 S1A, 3 S2A, 4 DA, 5 S1B, 6 S2B, 7 DB, 8 GND, 9 DC, 10 S2C, 11 S1C, 12 DD, 13 S2D, 14 S1D, 15 EN#, 16 VCC